# Altium schematic symbol library IC_Cypress_Semiconductor_CY8C9560A-24AXI.SchLib: 1 symbol
Pins are listed as number, name and electrical type; pins without a type are passive.

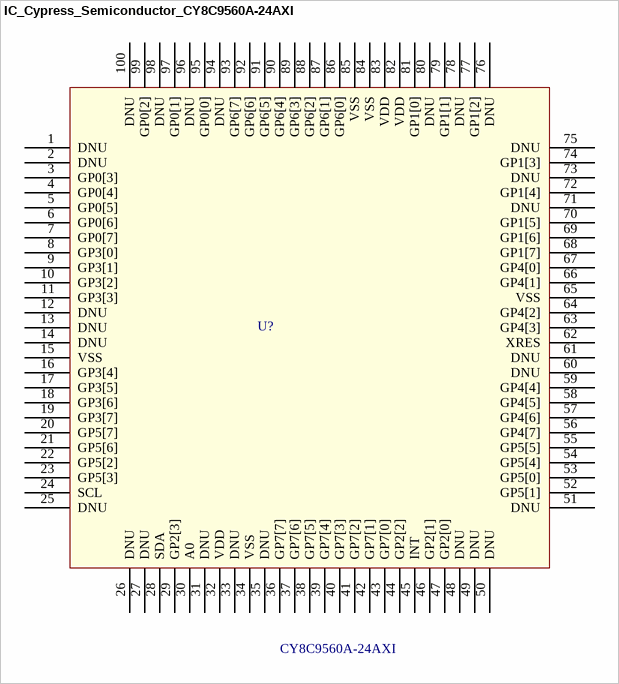
[diagram p0: symbol IC_Cypress_Semiconductor_CY8C9560A-24AXI]

## IC_Cypress_Semiconductor_CY8C9560A-24AXI
designator U?  Series: CY8C9560A-24AXI  (hidden comment: *)
Interface - I/O Expanders 60BIT IO EXPANDER W/EEPROM; Supplier 1: Mouser; Supplier Part Number 1: 727-CY8C9560A-24AXI
footprint IC_Cypress_Semiconductor_CY8C9560A-24AXI (Interface - I/O Expanders 60BIT IO EXPANDER W/EEPROM)
pins: 1 DNU, 2 DNU, 3 GP0[3], 4 GP0[4], 5 GP0[5], 6 GP0[6], 7 GP0[7], 8 GP3[0], 9 GP3[1], 10 GP3[2], 11 GP3[3], 12 DNU, 13 DNU, 14 DNU, 15 VSS, 16 GP3[4], 17 GP3[5], 18 GP3[6], 19 GP3[7], 20 GP5[7], 21 GP5[6], 22 GP5[2], 23 GP5[3], 24 SCL, 25 DNU, 26 DNU, 27 DNU, 28 SDA, 29 GP2[3], 30 A0, 31 DNU, 32 VDD, 33 DNU, 34 VSS, 35 DNU, 36 GP7[7], 37 GP7[6], 38 GP7[5], 39 GP7[4], 40 GP7[3], 41 GP7[2], 42 GP7[1], 43 GP7[0], 44 GP2[2], 45 INT, 46 GP2[1], 47 GP2[0], 48 DNU, 49 DNU, 50 DNU, 51 DNU, 52 GP5[1], 53 GP5[0], 54 GP5[4], 55 GP5[5], 56 GP4[7], 57 GP4[6], 58 GP4[5], 59 GP4[4], 60 DNU, 61 DNU, 62 XRES, 63 GP4[3], 64 GP4[2], 65 VSS, 66 GP4[1], 67 GP4[0], 68 GP1[7], 69 GP1[6], 70 GP1[5], 71 DNU, 72 GP1[4], 73 DNU, 74 GP1[3], 75 DNU, 76 DNU, 77 GP1[2], 78 DNU, 79 GP1[1], 80 DNU, 81 GP1[0], 82 VDD, 83 VDD, 84 VSS, 85 VSS, 86 GP6[0], 87 GP6[1], 88 GP6[2], 89 GP6[3], 90 GP6[4], 91 GP6[5], 92 GP6[6], 93 GP6[7], 94 DNU, 95 GP0[0], 96 DNU, 97 GP0[1], 98 DNU, 99 GP0[2], 100 DNU